# Altium schematic symbol library componenten.SchLib: 1 symbol
Pins are listed as number, name and electrical type; pins without a type are passive.

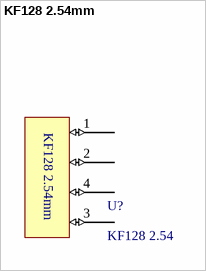
[diagram p0: symbol KF128 2.54mm]

## KF128 2.54mm
designator U?, comment KF128 2.54
KF128 2.54mm Pitch connector
pins: 1 (io), 2 (io), 3 (io), 4 (io)